# Altium footprint library BMAP_bnc.PcbLib: 1 footprints
Each footprint in its own frame and in the unit in brackets; x right, y up, seen from the top. Pads: shape width x height; smd on the part's side, far side on the other; paste and mask are expansions set on the pad; w line width, h text height; cw(c..) or ccw(c..) is an arc to the next point about the centre after c.
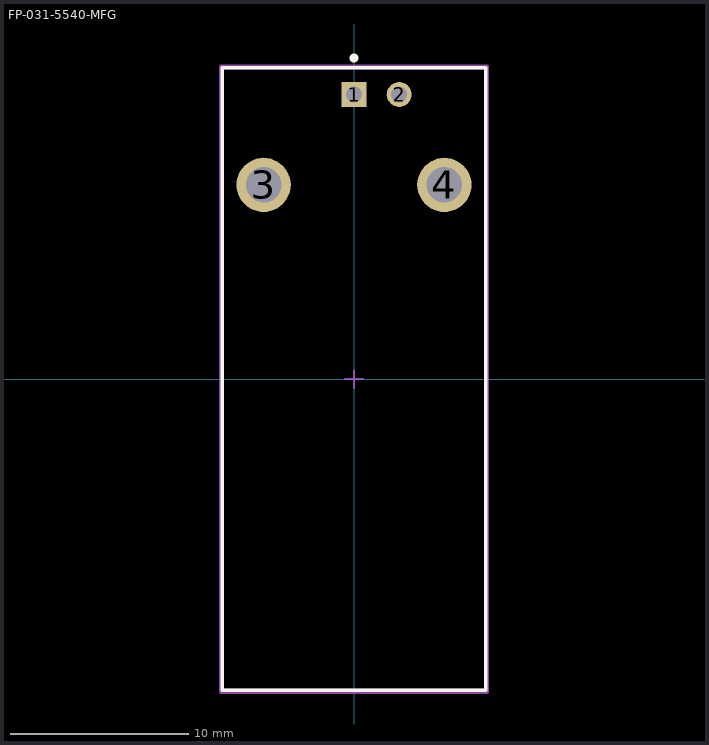
[diagram p0: the footprint, top view; thin cyan lines are the x and y axes]

## FP-031-5540-MFG [mm]
pads (4):
  rect 1.4x1.4 hole 0.9 paste-1000 mask+0: 1(0,16)
  round 1.4 hole 0.9 paste-1000 mask+0: 2(2.54,16)
  round 3.05 hole 2 paste-1000 mask+0: 3(-5.08,10.92) 4(5.08,10.92)
Top Overlay:
  circle w0.25: c0,18.05 r0.125
  lines w0.2: -7.4,-17.5 7.4,-17.5 7.4,17.5 -7.4,17.5 -7.4,-17.5
Mechanical 5:
  lines w0.2: -7.5,-17.6 7.5,-17.6 7.5,17.6 -7.5,17.6 -7.5,-17.6
  text ".Designator" at 0,0.188 h1
Mechanical 13:
  lines w0.2: -7.4,-17.5 7.4,-17.5 7.4,17.5 -7.4,17.5 -7.4,-17.5
Mechanical 15:
  lines w0.2: -7.5,-17.6 7.5,-17.6 7.5,17.6 -7.5,17.6 -7.5,-17.6
Mechanical 16:
  lines w0.1: -0.5,0 0.5,0 ; 0,-0.5 0,0.5
3D body "Conn_Amphenol_RF_031-5540_eec.STEP": height 0.25, standoff 0, extent -7.5,-17.6 7.5,17.6